# EAGLE library part ADF4351BCPZ (library My_Library_SDR)
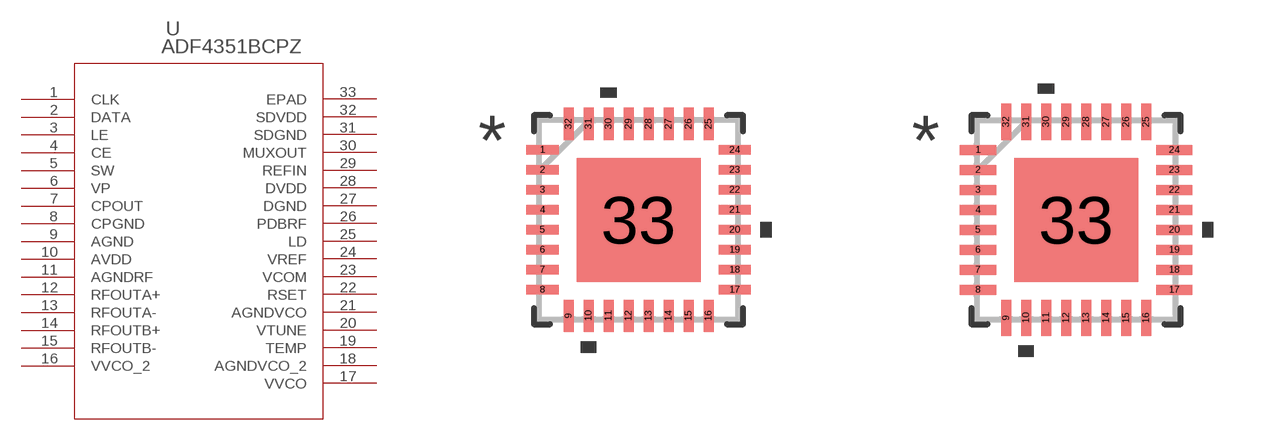
[diagram p1: symbol with the pads of CP-32-7_ADI; footprints CP-32-7_ADI, CP-32-7_ADI-M]

Designator prefix U

## ADF4351BCPZ (COPYRIGHT: Copyright (C) 2024 Ultra Librarian. All rights reserved.; MANUFACTURER_PART_NUMBER: ADF4351BCPZ; MFR_NAME: Analog Devices Inc)  [CP-32-7_ADI]
1  CLK  pas
2  DATA  pas
3  LE  pas
4  CE  pas
5  SW  pas
6  VP  pas
7  CPOUT  pas
8  CPGND  pas
9  AGND  pas
10  AVDD  pas
11  AGNDRF  pas
12  RFOUTA+  pas
13  RFOUTA-  pas
14  RFOUTB+  pas
15  RFOUTB-  pas
16  VVCO_2  pas
17  VVCO  pas
18  AGNDVCO_2  pas
19  TEMP  pas
20  VTUNE  pas
21  AGNDVCO  pas
22  RSET  pas
23  VCOM  pas
24  VREF  pas
25  LD  pas
26  PDBRF  pas
27  DGND  pas
28  DVDD  pas
29  REFIN  pas
30  MUXOUT  pas
31  SDGND  pas
32  SDVDD  pas
33  EPAD  pas

## ADF4351BCPZCP-32-7_ADI-M (COPYRIGHT: Copyright (C) 2024 Ultra Librarian. All rights reserved.; MANUFACTURER_PART_NUMBER: ADF4351BCPZ; MFR_NAME: Analog Devices Inc)  [CP-32-7_ADI-M]
Pads as for CP-32-7_ADI

## ADF4351BCPZCP-32-7_ADI-L (COPYRIGHT: Copyright (C) 2024 Ultra Librarian. All rights reserved.; MANUFACTURER_PART_NUMBER: ADF4351BCPZ; MFR_NAME: Analog Devices Inc)  [CP-32-7_ADI-L]
Pads as for CP-32-7_ADI

## Footprint CP-32-7_ADI (pad centres in mm)
smd 0.805 x 0.249: 1 -2.402,1.75; 2 -2.402,1.25; 3 -2.402,0.75; 4 -2.402,0.25; 5 -2.402,-0.25; 6 -2.402,-0.75; 7 -2.402,-1.25; 8 -2.402,-1.75; 17 2.402,-1.75; 18 2.402,-1.25; 19 2.402,-0.75; 20 2.402,-0.25; 21 2.402,0.25; 22 2.402,0.75; 23 2.402,1.25; 24 2.402,1.75
smd 0.249 x 0.805: 9 -1.75,-2.402; 10 -1.25,-2.402; 11 -0.75,-2.402; 12 -0.25,-2.402; 13 0.25,-2.402; 14 0.75,-2.402; 15 1.25,-2.402; 16 1.75,-2.402; 25 1.75,2.402; 26 1.25,2.402; 27 0.75,2.402; 28 0.25,2.402; 29 -0.25,2.402; 30 -0.75,2.402; 31 -1.25,2.402; 32 -1.75,2.402
smd 3.1 x 3.1: 33 0,0

## Footprint CP-32-7_ADI-M (pad centres in mm)
smd 0.906 x 0.249: 1 -2.453,1.75; 2 -2.453,1.25; 3 -2.453,0.75; 4 -2.453,0.25; 5 -2.453,-0.25; 6 -2.453,-0.75; 7 -2.453,-1.25; 8 -2.453,-1.75; 17 2.453,-1.75; 18 2.453,-1.25; 19 2.453,-0.75; 20 2.453,-0.25; 21 2.453,0.25; 22 2.453,0.75; 23 2.453,1.25; 24 2.453,1.75
smd 0.249 x 0.906: 9 -1.75,-2.453; 10 -1.25,-2.453; 11 -0.75,-2.453; 12 -0.25,-2.453; 13 0.25,-2.453; 14 0.75,-2.453; 15 1.25,-2.453; 16 1.75,-2.453; 25 1.75,2.453; 26 1.25,2.453; 27 0.75,2.453; 28 0.25,2.453; 29 -0.25,2.453; 30 -0.75,2.453; 31 -1.25,2.453; 32 -1.75,2.453
smd 3.1 x 3.1: 33 0,0

## Footprint CP-32-7_ADI-L (pad centres in mm)
smd 0.703 x 0.249: 1 -2.352,1.75; 2 -2.352,1.25; 3 -2.352,0.75; 4 -2.352,0.25; 5 -2.352,-0.25; 6 -2.352,-0.75; 7 -2.352,-1.25; 8 -2.352,-1.75; 17 2.352,-1.75; 18 2.352,-1.25; 19 2.352,-0.75; 20 2.352,-0.25; 21 2.352,0.25; 22 2.352,0.75; 23 2.352,1.25; 24 2.352,1.75
smd 0.249 x 0.703: 9 -1.75,-2.352; 10 -1.25,-2.352; 11 -0.75,-2.352; 12 -0.25,-2.352; 13 0.25,-2.352; 14 0.75,-2.352; 15 1.25,-2.352; 16 1.75,-2.352; 25 1.75,2.352; 26 1.25,2.352; 27 0.75,2.352; 28 0.25,2.352; 29 -0.25,2.352; 30 -0.75,2.352; 31 -1.25,2.352; 32 -1.75,2.352
smd 3.1 x 3.1: 33 0,0